# Altium footprint library STM32F103_CAN_Power.PcbLib: 13 footprints
Each footprint in its own frame and in the unit in brackets; x right, y up, seen from the top. Pads: shape width x height; smd on the part's side, far side on the other; paste and mask are expansions set on the pad; w line width, h text height; cw(c..) or ccw(c..) is an arc to the next point about the centre after c.
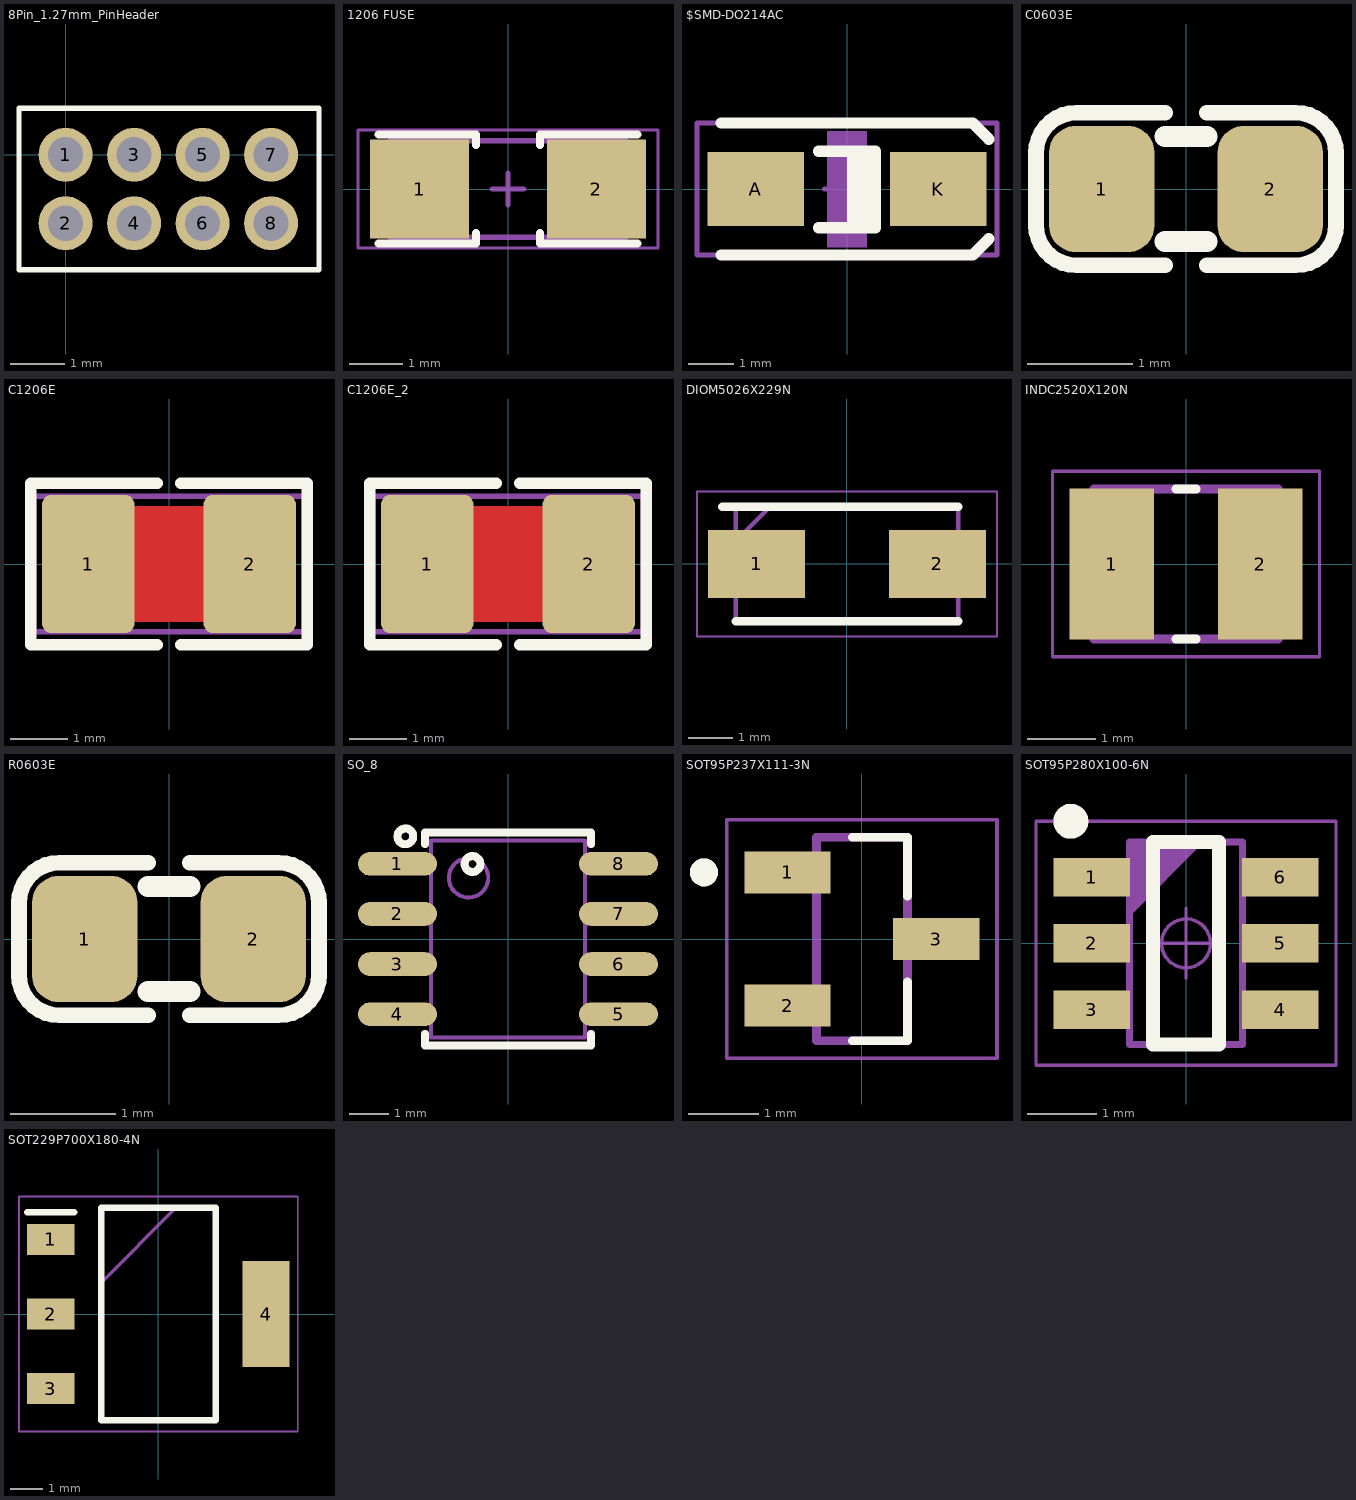
[diagram p0: the footprints below, top view; thin cyan lines are the x and y axes]

## 8Pin_1.27mm_PinHeader [mm] "1.27mm (0.05in.) pitch, Female Receptacle Top entry, 8 contacts Through Hole"
height 4.4
pads (8):
  round 1 hole 0.65: 1(0,0) 2(0,-1.27) 3(1.27,0) 4(1.27,-1.27) 5(2.54,0) 6(2.54,-1.27) 7(3.81,0) 8(3.81,-1.27)
Top Overlay:
  lines w0.1: -0.865,-2.135 -0.865,0.865 4.699,0.865 4.699,-2.135 -0.865,-2.135
3D body "20021311-0006XXLFc.stp": height 4.4, standoff -2.3, extent -0.865,-2.135 3.405,0.865

## 1206 FUSE [mm] "Fast Acting Smd 1206 non-Resettable Fuse Chip For Pcb Board-Design:Abbas Basereh"
height 1
pads (2):
  rect 1.85x1.85 smd: 1(-1.65,0) 2(1.65,0)
Top Overlay:
  lines w0.15: -2.413,-1.016 -0.6,-1.016 -0.6,-0.825 ; -2.413,1.016 -0.6,1.016 -0.6,0.825 ; 0.6,-0.825 0.6,-1.016 2.413,-1.016 ; 0.6,0.825 0.6,1.016 2.413,1.016
Mechanical 13:
  lines w0.1: -2.2,-0.9 2.2,-0.9 2.2,0.9 -2.2,0.9 -2.2,-0.9
Mechanical 15:
  lines w0.05: -2.8,-1.1 2.8,-1.1 2.8,1.1 -2.8,1.1 -2.8,-1.1
  lines w0.1: -0.3,0 0.3,0 ; 0,-0.3 0,0.3
3D body "User Library-FUSER_nanoSMD.STEP": height 1, standoff 0, extent -1.602,-0.8 1.603,0.8

## $SMD-DO214AC [mil]
height 93.7
pads (2):
  rect 85x65 smd: A(-80,0) K(80,0)
Top Overlay:
  region: 25,33 0,33 0,-34 25,-34
  lines w10: -110.24,-57.87 110.24,-57.87 124.41,-43.7 ; -110.24,57.87 110.24,57.87 124.41,43.7 ; -25,-34 25,-34 25,33 -25,33
Mechanical 2:
  region: 17.69,50.93 -17.74,50.93 -17.74,-51.43 17.69,-51.43
Mechanical 15:
  lines w4: -20,0 20,0 ; 0,-20 0,20 ; -131.5,-57.87 131.5,-57.87 131.5,57.87 -131.5,57.87 -131.5,-57.87
3D body "User Library-DO-214AC_SMA.STEP": height 85.69, standoff -0.97, extent -100.43,-53.03 96.42,53.26

## C0603E [mm] "CHIP Capacitor, 1.6X0.8mm, EXPANDED PAD"
height 0.6
pads (2):
  rrect50% 1x1.2 smd mask+0.05: 1(-0.8,0) 2(0.8,0)
Top Overlay:
  lines w0.15: -0.2,-0.725 -1.042,-0.725 cw(c-1.042,-0.342) -1.425,-0.342 -1.425,0.342 cw(c-1.042,0.342) -1.042,0.725 -0.2,0.725 ; 0.2,-0.725 1.042,-0.725 ccw(c1.042,-0.342) 1.425,-0.342 1.425,0.342 ccw(c1.042,0.342) 1.042,0.725 0.2,0.725
  lines w0.2: -0.2,-0.5 0.2,-0.5 ; -0.2,0.5 0.2,0.5
3D body "User Library-CAPC1608X09.step": height 0.9, standoff 0, extent -0.8,-0.4 0.8,0.4

## C1206E [mm] "CHIP Capacitor, 3.2X1.6mm, 1206, EXPANDED PAD"
height 2
pads (2):
  rrect20% 1.6x2.4 smd mask+0.075: 1(-1.4,0) 2(1.4,0)
Top Layer:
  pour cut-out: -0.8,1 -0.8,-1 0.8,-1 0.8,1
Top Overlay:
  lines w0.2: -0.2,-1.4 -2.4,-1.4 -2.4,1.4 -0.2,1.4 ; 0.2,-1.4 2.4,-1.4 2.4,1.4 0.2,1.4
Mechanical 13:
  lines w0.1: -1.6,-0.8 1.6,-0.8 1.6,0.8 -1.6,0.8 -1.6,-0.8
Mechanical 15:
  lines w0.1: -0.5,0 0.5,0 ; 0,-0.5 0,0.5 ; -2.35,-1.175 2.35,-1.175 2.35,1.175 -2.35,1.175 -2.35,-1.175
3D body "User Library-CAPC3216X10.step": height 1, standoff 0, extent -1.6,-0.8 1.6,0.8

## C1206E_2 [mm]
pads (2):
  rrect20% 1.6x2.4 smd mask+0.075: 1(-1.4,0) 2(1.4,0)
Top Layer:
  pour cut-out: -0.8,1 -0.8,-1 0.8,-1 0.8,1
Top Overlay:
  lines w0.2: -0.2,-1.4 -2.4,-1.4 -2.4,1.4 -0.2,1.4 ; 0.2,-1.4 2.4,-1.4 2.4,1.4 0.2,1.4
Mechanical 13:
  lines w0.1: -1.6,-0.8 1.6,-0.8 1.6,0.8 -1.6,0.8 -1.6,-0.8
Mechanical 15:
  lines w0.1: -0.5,0 0.5,0 ; 0,-0.5 0,0.5 ; -2.35,-1.175 2.35,-1.175 2.35,1.175 -2.35,1.175 -2.35,-1.175
3D body "User Library-CAPC3216X10.step": height 1, standoff 0, extent -1.6,-0.8 1.6,0.8

## DIOM5026X229N [mm]
height 1.1
pads (2):
  rect 2.2x1.55 smd: 1(-2.05,0) 2(2.05,0)
Top Overlay:
  lines w0.2: -2.825,1.298 2.52,1.298 ; -2.52,-1.298 2.52,-1.298
Mechanical 13:
  lines w0.1: -2.52,0.522 -1.745,1.298 ; -2.52,-1.298 -2.52,1.298 2.52,1.298 2.52,-1.298 -2.52,-1.298
Mechanical 15:
  lines w0.05: -3.4,-1.645 -3.4,1.645 3.4,1.645 3.4,-1.645 -3.4,-1.645
3D body "SMAJ24A.stp": height 2.29, standoff 0, extent -2.52,-1.298 2.52,1.298

## INDC2520X120N [mm]
height 1.2
pads (2):
  rect 1.24x2.22 smd: 1(-1.09,0) 2(1.09,0)
Top Overlay:
  lines w0.127: -0.15,-1.1 0.15,-1.1 ; -0.15,1.1 0.15,1.1
Mechanical 13:
  lines w0.127: -1.35,-1.1 -1.35,1.1 1.35,1.1 1.35,-1.1 -1.35,-1.1
Mechanical 15:
  lines w0.05: -1.958,-1.358 -1.958,1.358 1.958,1.358 1.958,-1.358 -1.958,-1.358

## R0603E [mm] "CHIP Resistor 1/10 WATT, 1.6x0.8mm, 0603, EXPANDED PAD"
height 0.6
pads (2):
  rrect50% 1x1.2 smd mask+0.05: 1(-0.8,0) 2(0.8,0)
Top Overlay:
  lines w0.15: -0.2,-0.725 -1.042,-0.725 cw(c-1.042,-0.342) -1.425,-0.342 -1.425,0.342 cw(c-1.042,0.342) -1.042,0.725 -0.2,0.725 ; 0.2,-0.725 1.042,-0.725 ccw(c1.042,-0.342) 1.425,-0.342 1.425,0.342 ccw(c1.042,0.342) 1.042,0.725 0.2,0.725
  lines w0.2: -0.2,-0.5 0.2,-0.5 ; -0.2,0.5 0.2,0.5
3D body "User Library-RES_1609-0603.step": height 0.56, standoff 0, extent -0.85,-0.4 0.85,0.4

## SO_8 [mm] "SOP-8, 5x3.9mm body 1.27mm pitch, SOT96-1, M08A, S8, SOIC8, VO8, MS-012AA(JEDEC), R-8, 8S2, VOG8"
height 1.8
pads (8):
  oval 2x0.6 smd: 1(-2.8,1.905) 2(-2.8,0.635) 3(-2.8,-0.635) 4(-2.8,-1.905) 5(2.8,-1.905) 6(2.8,-0.635) 7(2.8,0.635) 8(2.8,1.905)
Top Overlay:
  circle w0.2: c-0.9,1.9 r0.2
  circle w0.2: c-2.6,2.6 r0.2
  lines w0.2: -2.1,-2.4 -2.1,-2.7 2.1,-2.7 2.1,-2.4 ; -2.1,2.4 -2.1,2.7 2.1,2.7 2.1,2.4
Mechanical 13:
  circle w0.1: c-1,1.55 r0.5
  lines w0.1: -1.95,-2.5 -1.95,2.5 1.95,2.5 1.95,-2.5 -1.95,-2.5
3D body "User Library-so8-3.step": height 1.7, standoff 0, extent -3,-2.45 3,2.45

## SOT95P237X111-3N [mm]
height 1.11
pads (3):
  rect 1.23x0.6 smd: 1(-1.06,0.95) 2(-1.06,-0.95) 3(1.06,0)
Top Overlay:
  circle w0.2: c-2.25,0.95 r0.1
  lines w0.127: -0.132,-1.45 0.65,-1.45 0.65,-0.613 ; -0.132,1.45 0.65,1.45 0.65,0.613
Mechanical 13:
  circle w0.2: c-2.25,0.95 r0.1
  lines w0.127: -0.65,-1.45 -0.65,1.45 0.65,1.45 0.65,-1.45 -0.65,-1.45
Mechanical 15:
  lines w0.05: -1.925,-1.7 -1.925,1.7 1.925,1.7 1.925,-1.7 -1.925,-1.7
3D body "step_temp.STEP": height 1.11, standoff 0, extent -1.2,-1.45 1.2,1.45

## SOT95P280X100-6N [mm] "SOT23, 0.95mm pitch; 6 pin, 1.625mm W X 2.90mm L X 1.00mm H body, IPC Medium Density"
height 1
pads (6):
  rect 1.1x0.55 smd: 1(-1.35,0.95) 2(-1.35,0) 3(-1.35,-0.95) 4(1.35,-0.95) 5(1.35,0) 6(1.35,0.95)
Top Overlay:
  circle w0.25: c-1.65,1.75 r0.125
  lines w0.2: -0.475,-1.45 -0.475,1.45 0.475,1.45 0.475,-1.45 -0.475,-1.45
Mechanical 14:
  lines w0.1: -0.812,0.45 0.188,1.45 ; -0.812,0.55 0.088,1.45 ; -0.812,0.65 -0.012,1.45 ; -0.812,0.75 -0.112,1.45 ; -0.812,0.85 -0.212,1.45 ; -0.812,0.95 -0.312,1.45 ; -0.812,1.05 -0.412,1.45 ; -0.812,1.15 -0.512,1.45 ; -0.812,1.25 -0.612,1.45 ; -0.812,1.35 -0.712,1.45 ; -0.812,-1.45 -0.812,1.45 0.812,1.45 0.812,-1.45 -0.812,-1.45
Mechanical 15:
  circle w0.05: c0,0 r0.35
  lines w0.05: -0.5,0 0.5,0 ; 0,-0.5 0,0.5 ; -2.15,-1.75 -2.15,1.75 2.15,1.75 2.15,-1.75 -2.15,-1.75
3D body "SOT95P280X100-6N.stp": height 1, standoff 0, extent -1.4,-1.5 1.4,1.5

## SOT229P700X180-4N [mm]
height 6.8
pads (4):
  rect 1.45x0.95 smd: 1(-3.3,2.29) 2(-3.3,0) 3(-3.3,-2.29)
  rect 1.45x3.25 smd: 4(3.3,0)
Top Overlay:
  lines w0.2: -4.025,3.115 -2.575,3.115 ; -1.752,-3.252 1.752,-3.252 1.752,3.252 -1.752,3.252 -1.752,-3.252
Mechanical 13:
  lines w0.1: -1.752,0.962 0.538,3.252 ; -1.752,-3.252 1.752,-3.252 1.752,3.252 -1.752,3.252 -1.752,-3.252
Mechanical 15:
  lines w0.05: -4.275,-3.605 4.275,-3.605 4.275,3.605 -4.275,3.605 -4.275,-3.605
3D body "AMS1117-3.3.stp": height 1.8, standoff 0, extent -3.355,-3.15 3.355,3.15